# Altium footprint library SparkFun-IC-Microcontroller.PCBLIB: 44 footprints (part 2 of 3)
Each footprint in its own frame and in the unit in brackets; x right, y up, seen from the top. Pads: shape width x height; smd on the part's side, far side on the other; paste and mask are expansions set on the pad; w line width, h text height; cw(c..) or ccw(c..) is an arc to the next point about the centre after c.
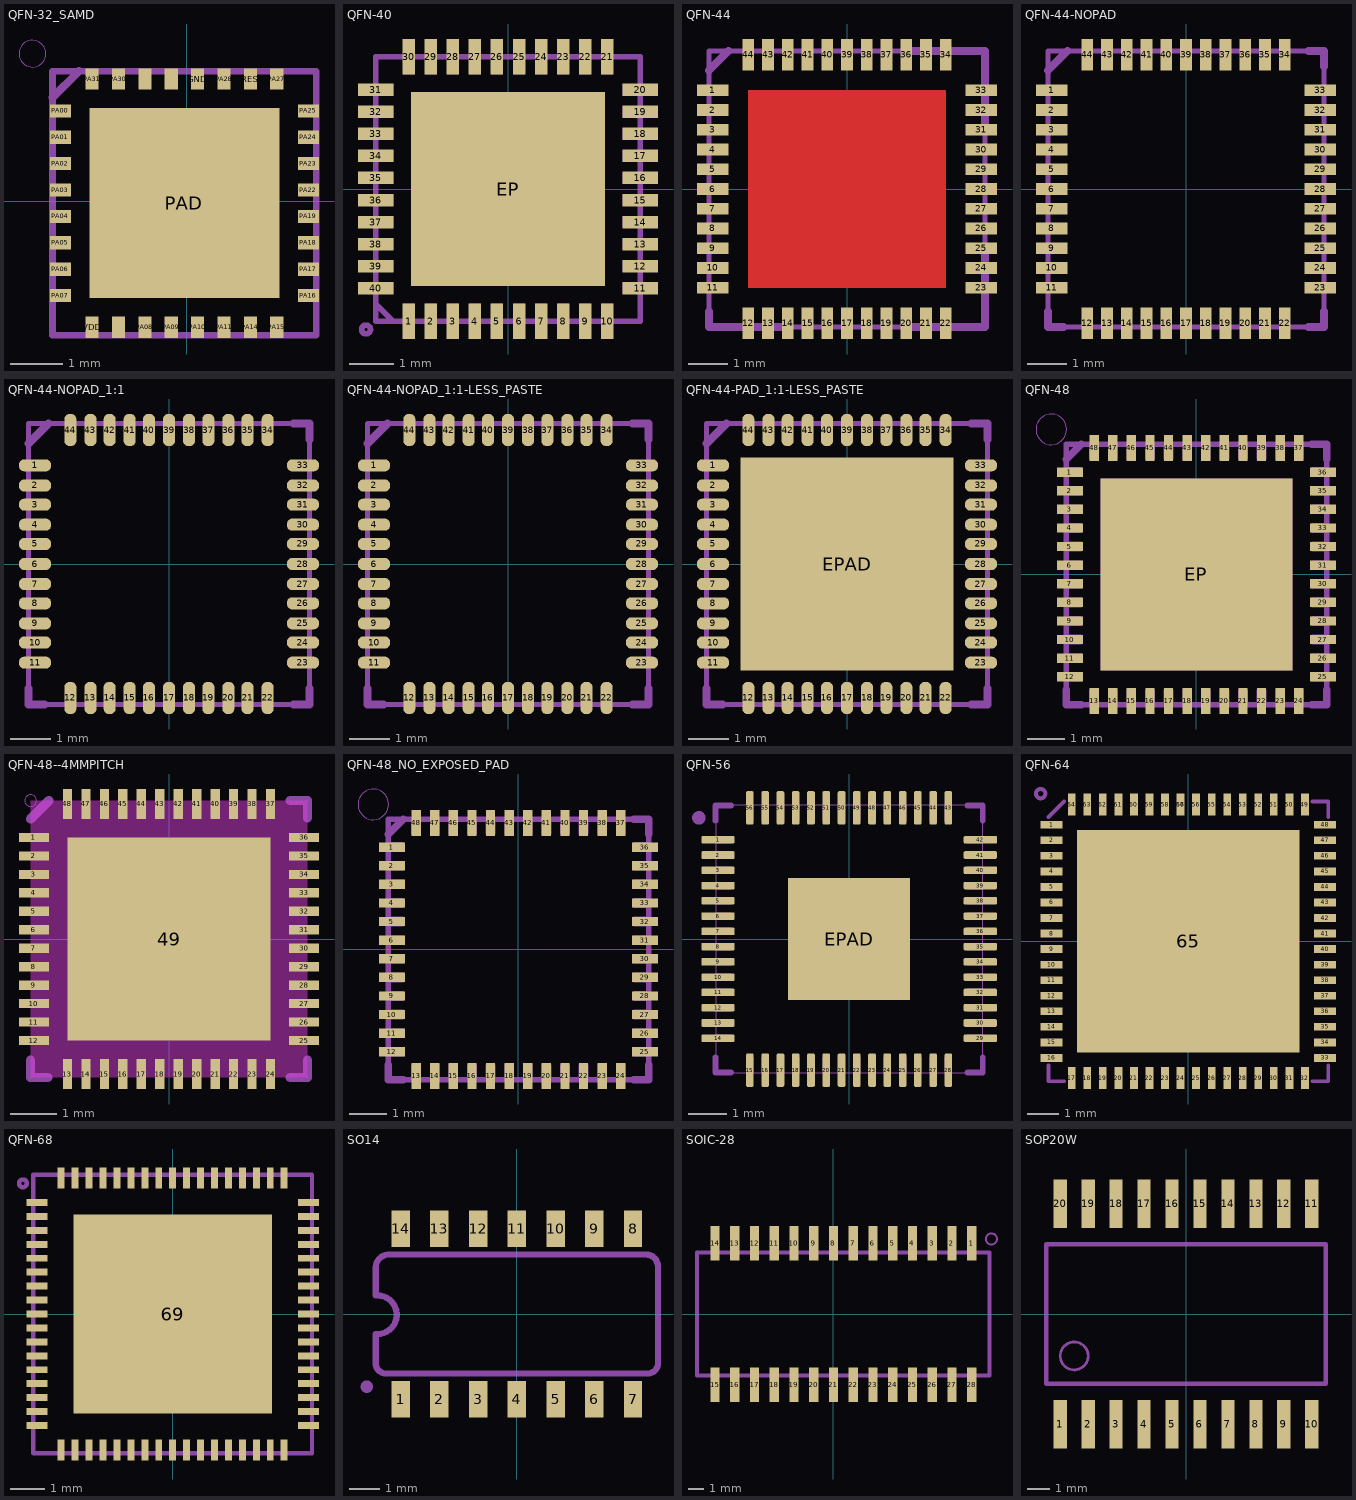
[diagram p1: the footprints below, top view; thin cyan lines are the x and y axes]

## QFN-32_SAMD [mm]
pads (33):
  rect 0.25x0.4 smd: GND(0.21,2.31) GNDANA(-1.29,-2.39) PA08(-0.79,-2.39) PA09(-0.29,-2.39) PA10(0.21,-2.39) PA11(0.71,-2.39) PA14(1.21,-2.39) PA15(1.71,-2.39) PA27(1.71,2.31) PA28(0.71,2.31) PA30(-1.29,2.31) PA31(-1.79,2.31) RES(1.21,2.31) VDD(-1.79,-2.39) VDDCORE(-0.29,2.31) VDDIN(-0.79,2.31)
  rect 0.4x0.25 smd: PA00(-2.39,1.71) PA01(-2.39,1.21) PA02(-2.39,0.71) PA03(-2.39,0.21) PA04(-2.39,-0.29) PA05(-2.39,-0.79) PA06(-2.39,-1.29) PA07(-2.39,-1.79) PA16(2.31,-1.79) PA17(2.31,-1.29) PA18(2.31,-0.79) PA19(2.31,-0.29) PA22(2.31,0.21) PA23(2.31,0.71) PA24(2.31,1.21) PA25(2.31,1.71)
  rect 3.6x3.6 smd paste+0: PAD(-0.04,-0.04)
Top Paste:
  region: -1.414,0.274 -1.414,1.417 -0.271,1.417 -0.271,0.274
  region: 0.204,0.284 0.204,1.427 1.347,1.427 1.347,0.284
  region: -1.424,-1.42 -1.424,-0.277 -0.281,-0.277 -0.281,-1.42
  region: 0.194,-1.42 0.194,-0.277 1.337,-0.277 1.337,-1.42
tDocu:
  lines w0.127: -2.54,-2.54 2.46,-2.54 2.46,2.46 -2.54,2.46 -2.54,-2.49
tPlace:
  circle w0: c-2.921,2.794 r0.254
  lines w0.102: -2.54,-2.04 -2.54,-2.54 -2.04,-2.54 ; -2.54,1.96 -2.54,2.46 -2.04,2.46 ; 1.96,-2.54 2.46,-2.54 2.46,-2.04 ; 1.96,2.46 2.46,2.46 2.46,1.96
  lines w0.152: -2.54,1.96 -2.04,2.46

## QFN-40 [mm]
pads (41):
  rect 0.284x0.8 smd paste+0: 1(-2.25,-3) 2(-1.75,-3) 3(-1.25,-3) 4(-0.75,-3) 5(-0.25,-3) 6(0.25,-3) 7(0.75,-3) 8(1.25,-3) 9(1.75,-3) 10(2.25,-3) 21(2.25,3) 22(1.75,3) 23(1.25,3) 24(0.75,3) 25(0.25,3) 26(-0.25,3) 27(-0.75,3) 28(-1.25,3) 29(-1.75,3) 30(-2.25,3)
  rect 0.8x0.284 smd paste+0: 11(3,-2.25) 12(3,-1.75) 13(3,-1.25) 14(3,-0.75) 15(3,-0.25) 16(3,0.25) 17(3,0.75) 18(3,1.25) 19(3,1.75) 20(3,2.25) 31(-3,2.25) 32(-3,1.75) 33(-3,1.25) 34(-3,0.75) 35(-3,0.25) 36(-3,-0.25) 37(-3,-0.75) 38(-3,-1.25) 39(-3,-1.75) 40(-3,-2.25)
  rect 4.4x4.4 smd paste+0: EP(0,0)
Top Paste:
  drawing of 44 lines, arcs and shapes, not listed
tDocu:
  drawing of 44 lines, arcs and shapes, not listed
tPlace:
  circle w0.127: c-3.218,-3.184 r0.1
  lines w0.127: -3,-2.6 -2.6,-3 ; -3,2.6 -3,3 -2.6,3 ; 2.6,-3 3,-3 3,-2.6 ; 2.6,3 3,3 3,2.6

## QFN-44 [mil]
pads (44):
  rect 31.5x11.81 smd: 1(-133.86,98.43) 2(-133.86,78.74) 3(-133.86,59.06) 4(-133.86,39.37) 5(-133.86,19.69) 6(-133.86,0) 7(-133.86,-19.69) 8(-133.86,-39.37) 9(-133.86,-59.06) 10(-133.86,-78.74) 11(-133.86,-98.43) 23(133.86,-98.43) 24(133.86,-78.74) 25(133.86,-59.06) 26(133.86,-39.37) 27(133.86,-19.69) 28(133.86,0) 29(133.86,19.69) 30(133.86,39.37) 31(133.86,59.06) 32(133.86,78.74) 33(133.86,98.43)
  rect 11.81x31.5 smd: 12(-98.43,-133.86) 13(-78.74,-133.86) 14(-59.06,-133.86) 15(-39.37,-133.86) 16(-19.69,-133.86) 17(0,-133.86) 18(19.69,-133.86) 19(39.37,-133.86) 20(59.06,-133.86) 21(78.74,-133.86) 22(98.43,-133.86) 34(98.43,133.86) 35(78.74,133.86) 36(59.06,133.86) 37(39.37,133.86) 38(19.69,133.86) 39(0,133.86) 40(-19.69,133.86) 41(-39.37,133.86) 42(-59.06,133.86) 43(-78.74,133.86) 44(-98.43,133.86)
Top:
  region: -98.43,-98.43 -98.43,98.43 98.43,98.43 98.43,-98.43
Top Solder:
  region: -19.69,-19.69 -19.69,19.69 19.69,19.69 19.69,-19.69
tDocu:
  lines w5: -137.8,-137.8 -137.8,137.8 137.8,137.8 137.8,-137.8 -133.86,-137.8
tPlace:
  lines w8: -137.8,-122.05 -137.8,-137.8 -64.96,-137.8 ; -137.8,118.11 -118.11,137.8 ; 64.96,-137.8 137.8,-137.8 137.8,-64.96 ; 64.96,137.8 137.8,137.8 137.8,64.96

## QFN-44-NOPAD [mil]
pads (44):
  rect 31.5x11.81 smd: 1(-133.86,98.43) 2(-133.86,78.74) 3(-133.86,59.06) 4(-133.86,39.37) 5(-133.86,19.69) 6(-133.86,0) 7(-133.86,-19.69) 8(-133.86,-39.37) 9(-133.86,-59.06) 10(-133.86,-78.74) 11(-133.86,-98.43) 23(133.86,-98.43) 24(133.86,-78.74) 25(133.86,-59.06) 26(133.86,-39.37) 27(133.86,-19.69) 28(133.86,0) 29(133.86,19.69) 30(133.86,39.37) 31(133.86,59.06) 32(133.86,78.74) 33(133.86,98.43)
  rect 11.81x31.5 smd: 12(-98.43,-133.86) 13(-78.74,-133.86) 14(-59.06,-133.86) 15(-39.37,-133.86) 16(-19.69,-133.86) 17(0,-133.86) 18(19.69,-133.86) 19(39.37,-133.86) 20(59.06,-133.86) 21(78.74,-133.86) 22(98.43,-133.86) 34(98.43,133.86) 35(78.74,133.86) 36(59.06,133.86) 37(39.37,133.86) 38(19.69,133.86) 39(0,133.86) 40(-19.69,133.86) 41(-39.37,133.86) 42(-59.06,133.86) 43(-78.74,133.86) 44(-98.43,133.86)
tDocu:
  lines w5: -137.8,-137.8 -137.8,137.8 137.8,137.8 137.8,-137.8 -133.86,-137.8
tPlace:
  lines w8: -137.8,-122.05 -137.8,-137.8 -122.05,-137.8 ; -137.8,118.11 -118.11,137.8 ; 122.05,-137.8 137.8,-137.8 137.8,-122.05 ; 122.05,137.8 137.8,137.8 137.8,122.05

## QFN-44-NOPAD_1:1 [mil]
pads (44):
  rrect85% 31.5x11.81 smd: 1(-131.36,96.76) 2(-131.36,77.08) 3(-131.36,58.22) 4(-131.36,38.54) 5(-131.36,19.69) 6(-131.36,0) 7(-131.36,-19.69) 8(-131.36,-38.54) 9(-131.36,-58.22) 10(-131.36,-77.08) 11(-131.36,-96.76) 23(131.36,-96.76) 24(131.36,-77.08) 25(131.36,-58.22) 26(131.36,-38.54) 27(131.36,-19.69) 28(131.36,0) 29(131.36,19.69) 30(131.36,38.54) 31(131.36,58.22) 32(131.36,77.08) 33(131.36,96.76)
  rrect85% 11.81x31.5 smd: 12(-96.76,-131.36) 13(-77.08,-131.36) 14(-58.22,-131.36) 15(-38.54,-131.36) 16(-19.69,-131.36) 17(0,-131.36) 18(19.69,-131.36) 19(38.54,-131.36) 20(58.22,-131.36) 21(77.08,-131.36) 22(96.76,-131.36) 34(96.76,131.36) 35(77.08,131.36) 36(58.22,131.36) 37(38.54,131.36) 38(19.69,131.36) 39(0,131.36) 40(-19.69,131.36) 41(-38.54,131.36) 42(-58.22,131.36) 43(-77.08,131.36) 44(-96.76,131.36)
tDocu:
  lines w5: -137.8,-137.8 -137.8,137.8 137.8,137.8 137.8,-137.8 -133.86,-137.8
tPlace:
  lines w8: -137.8,-122.05 -137.8,-137.8 -122.05,-137.8 ; -137.8,118.11 -118.11,137.8 ; 122.05,-137.8 137.8,-137.8 137.8,-122.05 ; 122.05,137.8 137.8,137.8 137.8,122.05

## QFN-44-NOPAD_1:1-LESS_PASTE [mil]
pads (44):
  rrect85% 31.5x11.81 smd paste+0: 1(-131.36,96.76) 2(-131.36,77.08) 3(-131.36,58.22) 4(-131.36,38.54) 5(-131.36,19.69) 6(-131.36,0) 7(-131.36,-19.69) 8(-131.36,-38.54) 9(-131.36,-58.22) 10(-131.36,-77.08) 11(-131.36,-96.76) 23(131.36,-96.76) 24(131.36,-77.08) 25(131.36,-58.22) 26(131.36,-38.54) 27(131.36,-19.69) 28(131.36,0) 29(131.36,19.69) 30(131.36,38.54) 31(131.36,58.22) 32(131.36,77.08) 33(131.36,96.76)
  rrect85% 11.81x31.5 smd paste+0: 12(-96.76,-131.36) 13(-77.08,-131.36) 14(-58.22,-131.36) 15(-38.54,-131.36) 16(-19.69,-131.36) 17(0,-131.36) 18(19.69,-131.36) 19(38.54,-131.36) 20(58.22,-131.36) 21(77.08,-131.36) 22(96.76,-131.36) 34(96.76,131.36) 35(77.08,131.36) 36(58.22,131.36) 37(38.54,131.36) 38(19.69,131.36) 39(0,131.36) 40(-19.69,131.36) 41(-38.54,131.36) 42(-58.22,131.36) 43(-77.08,131.36) 44(-96.76,131.36)
Top Paste:
  drawing of 44 lines, arcs and shapes, not listed
tDocu:
  lines w5: -137.8,-137.8 -137.8,137.8 137.8,137.8 137.8,-137.8 -133.86,-137.8
tPlace:
  lines w8: -137.8,-122.05 -137.8,-137.8 -122.05,-137.8 ; -137.8,118.11 -118.11,137.8 ; 122.05,-137.8 137.8,-137.8 137.8,-122.05 ; 122.05,137.8 137.8,137.8 137.8,122.05

## QFN-44-PAD_1:1-LESS_PASTE [mil]
pads (45):
  rrect85% 31.5x11.81 smd paste+0: 1(-131.36,96.76) 2(-131.36,77.08) 3(-131.36,58.22) 4(-131.36,38.54) 5(-131.36,19.69) 6(-131.36,0) 7(-131.36,-19.69) 8(-131.36,-38.54) 9(-131.36,-58.22) 10(-131.36,-77.08) 11(-131.36,-96.76) 23(131.36,-96.76) 24(131.36,-77.08) 25(131.36,-58.22) 26(131.36,-38.54) 27(131.36,-19.69) 28(131.36,0) 29(131.36,19.69) 30(131.36,38.54) 31(131.36,58.22) 32(131.36,77.08) 33(131.36,96.76)
  rrect85% 11.81x31.5 smd paste+0: 12(-96.76,-131.36) 13(-77.08,-131.36) 14(-58.22,-131.36) 15(-38.54,-131.36) 16(-19.69,-131.36) 17(0,-131.36) 18(19.69,-131.36) 19(38.54,-131.36) 20(58.22,-131.36) 21(77.08,-131.36) 22(96.76,-131.36) 34(96.76,131.36) 35(77.08,131.36) 36(58.22,131.36) 37(38.54,131.36) 38(19.69,131.36) 39(0,131.36) 40(-19.69,131.36) 41(-38.54,131.36) 42(-58.22,131.36) 43(-77.08,131.36) 44(-96.76,131.36)
  rect 208.66x208.66 smd paste+0: EPAD(0,0)
Top:
  region: -78.74,19.69 -78.74,78.74 -19.69,78.74 -19.69,19.69
Top Paste:
  drawing of 44 lines, arcs and shapes, not listed
tDocu:
  lines w5: -137.8,-137.8 -137.8,137.8 137.8,137.8 137.8,-137.8 -133.86,-137.8
tPlace:
  lines w8: -137.8,-122.05 -137.8,-137.8 -122.05,-137.8 ; -137.8,118.11 -118.11,137.8 ; 122.05,-137.8 137.8,-137.8 137.8,-122.05 ; 122.05,137.8 137.8,137.8 137.8,122.05

## QFN-48 [mm]
pads (49):
  rect 0.7x0.25 smd: 1(-3.4,2.75) 2(-3.4,2.25) 3(-3.4,1.75) 4(-3.4,1.25) 5(-3.4,0.75) 6(-3.4,0.25) 7(-3.4,-0.25) 8(-3.4,-0.75) 9(-3.4,-1.25) 10(-3.4,-1.75) 11(-3.4,-2.25) 12(-3.4,-2.75) 25(3.4,-2.75) 26(3.4,-2.25) 27(3.4,-1.75) 28(3.4,-1.25) 29(3.4,-0.75) 30(3.4,-0.25) 31(3.4,0.25) 32(3.4,0.75) 33(3.4,1.25) 34(3.4,1.75) 35(3.4,2.25) 36(3.4,2.75)
  rect 0.25x0.7 smd: 13(-2.75,-3.4) 14(-2.25,-3.4) 15(-1.75,-3.4) 16(-1.25,-3.4) 17(-0.75,-3.4) 18(-0.25,-3.4) 19(0.25,-3.4) 20(0.75,-3.4) 21(1.25,-3.4) 22(1.75,-3.4) 23(2.25,-3.4) 24(2.75,-3.4) 37(2.75,3.4) 38(2.25,3.4) 39(1.75,3.4) 40(1.25,3.4) 41(0.75,3.4) 42(0.25,3.4) 43(-0.25,3.4) 44(-0.75,3.4) 45(-1.25,3.4) 46(-1.75,3.4) 47(-2.25,3.4) 48(-2.75,3.4)
  rect 5.15x5.15 smd paste+0: EP(0,0)
tDocu:
  drawing of 53 lines, arcs and shapes, not listed
tPlace:
  circle w0: c-3.9,3.9 r0.412
  lines w0.203: -3.5,-3.1 -3.5,-3.5 -3.1,-3.5 ; -3.5,3.1 -3.1,3.5 ; 3.1,-3.5 3.5,-3.5 3.5,-3.1 ; 3.1,3.5 3.5,3.5 3.5,3.1

## QFN-48--4MMPITCH [mm]
pads (49):
  rect 0.65x0.2 smd paste+0: 1(-2.925,2.2) 2(-2.925,1.8) 3(-2.925,1.4) 4(-2.925,1) 5(-2.925,0.6) 6(-2.925,0.2) 7(-2.925,-0.2) 8(-2.925,-0.6) 9(-2.925,-1) 10(-2.925,-1.4) 11(-2.925,-1.8) 12(-2.925,-2.2) 25(2.925,-2.2) 26(2.925,-1.8) 27(2.925,-1.4) 28(2.925,-1) 29(2.925,-0.6) 30(2.925,-0.2) 31(2.925,0.2) 32(2.925,0.6) 33(2.925,1) 34(2.925,1.4) 35(2.925,1.8) 36(2.925,2.2)
  rect 0.2x0.65 smd paste+0: 13(-2.2,-2.925) 14(-1.8,-2.925) 15(-1.4,-2.925) 16(-1,-2.925) 17(-0.6,-2.925) 18(-0.2,-2.925) 19(0.2,-2.925) 20(0.6,-2.925) 21(1,-2.925) 22(1.4,-2.925) 23(1.8,-2.925) 24(2.2,-2.925) 37(2.2,2.925) 38(1.8,2.925) 39(1.4,2.925) 40(1,2.925) 41(0.6,2.925) 42(0.2,2.925) 43(-0.2,2.925) 44(-0.6,2.925) 45(-1,2.925) 46(-1.4,2.925) 47(-1.8,2.925) 48(-2.2,2.925)
  rect 4.4x4.4 smd paste+0: 49(0,0)
Top keep-out:
  region: 3,-3 -3,-3 -3,3 3,3
  region: -0.508,-2.388 -0.508,-2.21 0.508,-2.21 0.508,-2.388
  region: -2.21,-0.508 -2.388,-0.508 -2.388,0.508 -2.21,0.508
  region: 2.388,-0.508 2.21,-0.508 2.21,0.508 2.388,0.508
  region: -0.508,2.21 -0.508,2.388 0.508,2.388 0.508,2.21
Top Paste:
  drawing of 54 lines, arcs and shapes, not listed
tPlace:
  circle w0: c-2.997,2.997 r0.127
  lines w0.203: -3,-2.625 -3,-3 -2.625,-3 ; -3,2.6 -2.6,3 ; 2.625,-3 3,-3 3,-2.625 ; 2.625,3 3,3 3,2.625

## QFN-48_NO_EXPOSED_PAD [mm]
pads (48):
  rect 0.7x0.25 smd: 1(-3.4,2.75) 2(-3.4,2.25) 3(-3.4,1.75) 4(-3.4,1.25) 5(-3.4,0.75) 6(-3.4,0.25) 7(-3.4,-0.25) 8(-3.4,-0.75) 9(-3.4,-1.25) 10(-3.4,-1.75) 11(-3.4,-2.25) 12(-3.4,-2.75) 25(3.4,-2.75) 26(3.4,-2.25) 27(3.4,-1.75) 28(3.4,-1.25) 29(3.4,-0.75) 30(3.4,-0.25) 31(3.4,0.25) 32(3.4,0.75) 33(3.4,1.25) 34(3.4,1.75) 35(3.4,2.25) 36(3.4,2.75)
  rect 0.25x0.7 smd: 13(-2.75,-3.4) 14(-2.25,-3.4) 15(-1.75,-3.4) 16(-1.25,-3.4) 17(-0.75,-3.4) 18(-0.25,-3.4) 19(0.25,-3.4) 20(0.75,-3.4) 21(1.25,-3.4) 22(1.75,-3.4) 23(2.25,-3.4) 24(2.75,-3.4) 37(2.75,3.4) 38(2.25,3.4) 39(1.75,3.4) 40(1.25,3.4) 41(0.75,3.4) 42(0.25,3.4) 43(-0.25,3.4) 44(-0.75,3.4) 45(-1.25,3.4) 46(-1.75,3.4) 47(-2.25,3.4) 48(-2.75,3.4)
tDocu:
  drawing of 52 lines, arcs and shapes, not listed
tPlace:
  circle w0: c-3.9,3.9 r0.412
  lines w0.203: -3.5,-3.1 -3.5,-3.5 -3.1,-3.5 ; -3.5,3.1 -3.1,3.5 ; 3.1,-3.5 3.5,-3.5 3.5,-3.1 ; 3.1,3.5 3.5,3.5 3.5,3.1

## QFN-56 [mm]
pads (57):
  rrect40% 0.875x0.2 smd paste+0: 1(-3.437,2.6) 2(-3.437,2.2) 3(-3.437,1.8) 4(-3.437,1.4) 5(-3.437,1) 6(-3.437,0.6) 7(-3.437,0.2) 8(-3.437,-0.2) 9(-3.437,-0.6) 10(-3.437,-1) 11(-3.437,-1.4) 12(-3.437,-1.8) 13(-3.437,-2.2) 14(-3.437,-2.6) 29(3.437,-2.6) 30(3.437,-2.2) 31(3.437,-1.8) 32(3.437,-1.4) 33(3.437,-1) 34(3.437,-0.6) 35(3.437,-0.2) 36(3.437,0.2) 37(3.437,0.6) 38(3.437,1) 39(3.437,1.4) 40(3.437,1.8) 41(3.437,2.2) 42(3.437,2.6)
  rrect40% 0.2x0.875 smd paste+0: 15(-2.6,-3.437) 16(-2.2,-3.437) 17(-1.8,-3.437) 18(-1.4,-3.437) 19(-1,-3.437) 20(-0.6,-3.437) 21(-0.2,-3.437) 22(0.2,-3.437) 23(0.6,-3.437) 24(1,-3.437) 25(1.4,-3.437) 26(1.8,-3.437) 27(2.2,-3.437) 28(2.6,-3.437) 43(2.6,3.437) 44(2.2,3.437) 45(1.8,3.437) 46(1.4,3.437) 47(1,3.437) 48(0.6,3.437) 49(0.2,3.437) 50(-0.2,3.437) 51(-0.6,3.437) 52(-1,3.437) 53(-1.4,3.437) 54(-1.8,3.437) 55(-2.2,3.437) 56(-2.6,3.437)
  rect 3.2x3.2 smd paste+0: EPAD(0,0)
Top Paste:
  drawing of 61 lines, arcs and shapes, not listed
tDocu:
  drawing of 60 lines, arcs and shapes, not listed
tPlace:
  circle w0.254: c-3.937,3.175 r0.05
  lines w0.152: -3.5,-3.1 -3.5,-3.5 -3.1,-3.5 ; -3.5,3.1 -3.5,3.5 -3.1,3.5 ; 3.1,-3.5 3.5,-3.5 3.5,-3.1 ; 3.1,3.5 3.5,3.5 3.5,3.1

## QFN-64 [mil]
pads (66):
  rect 27.56x9.84 smd paste+0: 1(-173.23,147.64) 2(-173.23,127.95) 3(-173.23,108.27) 4(-173.23,88.58) 5(-173.23,68.9) 6(-173.23,49.21) 7(-173.23,29.53) 8(-173.23,9.84) 9(-173.23,-9.84) 10(-173.23,-29.53) 11(-173.23,-49.21) 12(-173.23,-68.9) 13(-173.23,-88.58) 14(-173.23,-108.27) 15(-173.23,-127.95) 16(-173.23,-147.64) 33(173.23,-147.64) 34(173.23,-127.95) 35(173.23,-108.27) 36(173.23,-88.58) 37(173.23,-68.9) 38(173.23,-49.21) 39(173.23,-29.53) 40(173.23,-9.84) 41(173.23,9.84) 42(173.23,29.53) 43(173.23,49.21) 44(173.23,68.9) 45(173.23,88.58) 46(173.23,108.27) 47(173.23,127.95) 48(173.23,147.64)
  rect 9.84x27.56 smd paste+0: 17(-147.64,-173.23) 18(-127.95,-173.23) 19(-108.27,-173.23) 20(-88.58,-173.23) 21(-68.9,-173.23) 22(-49.21,-173.23) 23(-29.53,-173.23) 24(-9.84,-173.23) 25(9.84,-173.23) 26(29.53,-173.23) 27(49.21,-173.23) 28(68.9,-173.23) 29(88.58,-173.23) 30(108.27,-173.23) 31(127.95,-173.23) 32(147.64,-173.23) 49(147.64,173.23) 50(127.95,173.23) 51(108.27,173.23) 52(88.58,173.23) 53(68.9,173.23) 54(49.21,173.23) 55(29.53,173.23) 56(9.84,173.23) 57(-9.84,173.23) 58(-29.53,173.23) 59(-49.21,173.23) 60(-68.9,173.23) 61(-88.58,173.23) 62(-108.27,173.23) 63(-127.95,173.23) 64(-147.64,173.23) 66(-9.84,173.23)
  rect 281.5x281.5 smd paste+0: 65(0,0)
Top Paste:
  drawing of 68 lines, arcs and shapes, not listed
tPlace:
  circle w5: c-187.01,187.01 r5.91
  lines w5: -177.17,-157.48 -177.17,-177.17 -157.48,-177.17 ; -177.17,157.48 -157.48,177.17 ; 157.48,-177.17 177.17,-177.17 177.17,-157.48 ; 157.48,177.17 177.17,177.17 177.17,157.48

## QFN-68 [mm]
pads (69):
  rect 0.6x0.2 smd: 1(-3.9,3.2) 2(-3.9,2.8) 3(-3.9,2.4) 4(-3.9,2) 5(-3.9,1.6) 6(-3.9,1.2) 7(-3.9,0.8) 8(-3.9,0.4) 9(-3.9,0) 10(-3.9,-0.4) 11(-3.9,-0.8) 12(-3.9,-1.2) 13(-3.9,-1.6) 14(-3.9,-2) 15(-3.9,-2.4) 16(-3.9,-2.8) 17(-3.9,-3.2) 35(3.9,-3.2) 36(3.9,-2.8) 37(3.9,-2.4) 38(3.9,-2) 39(3.9,-1.6) 40(3.9,-1.2) 41(3.9,-0.8) 42(3.9,-0.4) 43(3.9,0) 44(3.9,0.4) 45(3.9,0.8) 46(3.9,1.2) 47(3.9,1.6) 48(3.9,2) 49(3.9,2.4) 50(3.9,2.8) 51(3.9,3.2)
  rect 0.2x0.6 smd: 18(-3.2,-3.9) 19(-2.8,-3.9) 20(-2.4,-3.9) 21(-2,-3.9) 22(-1.6,-3.9) 23(-1.2,-3.9) 24(-0.8,-3.9) 25(-0.4,-3.9) 26(0,-3.9) 27(0.4,-3.9) 28(0.8,-3.9) 29(1.2,-3.9) 30(1.6,-3.9) 31(2,-3.9) 32(2.4,-3.9) 33(2.8,-3.9) 34(3.2,-3.9) 52(3.2,3.9) 53(2.8,3.9) 54(2.4,3.9) 55(2,3.9) 56(1.6,3.9) 57(1.2,3.9) 58(0.8,3.9) 59(0.4,3.9) 60(0,3.9) 61(-0.4,3.9) 62(-0.8,3.9) 63(-1.2,3.9) 64(-1.6,3.9) 65(-2,3.9) 66(-2.4,3.9) 67(-2.8,3.9) 68(-3.2,3.9)
  rect 5.7x5.7 smd paste+0: 69(0,0)
Top Paste:
  region: -0.5,1.5 -0.5,2.5 0.5,2.5 0.5,1.5
  region: -0.5,-0.5 -0.5,0.5 0.5,0.5 0.5,-0.5
  region: -0.5,-2.5 -0.5,-1.5 0.5,-1.5 0.5,-2.5
  region: 1.5,-0.5 1.5,0.5 2.5,0.5 2.5,-0.5
  region: -2.5,-0.5 -2.5,0.5 -1.5,0.5 -1.5,-0.5
tPlace:
  circle w0.127: c-4.3,3.75 r0.112
  lines w0.127: -4,-4 4,-4 4,4 -4,4 -4,-4

## SO14 [mm]
pads (14):
  rect 0.6x1.2 smd: 1(-3.81,-2.8) 2(-2.54,-2.8) 3(-1.27,-2.8) 4(0,-2.8) 5(1.27,-2.8) 6(2.54,-2.8) 7(3.81,-2.8) 8(3.81,2.8) 9(2.54,2.8) 10(1.27,2.8) 11(0,2.8) 12(-1.27,2.8) 13(-2.54,2.8) 14(-3.81,2.8)
tDocu:
  region: -4.064,-3.302 -4.064,-2.273 -3.556,-2.273 -3.556,-3.302
  region: -2.794,-3.302 -2.794,-2.273 -2.286,-2.273 -2.286,-3.302
  region: -1.524,-3.302 -1.524,-2.273 -1.016,-2.273 -1.016,-3.302
  region: -0.254,-3.302 -0.254,-2.273 0.254,-2.273 0.254,-3.302
  region: 1.016,-3.302 1.016,-2.273 1.524,-2.273 1.524,-3.302
  region: 2.286,-3.302 2.286,-2.273 2.794,-2.273 2.794,-3.302
  region: 3.556,-3.302 3.556,-2.273 4.064,-2.273 4.064,-3.302
  region: -2.794,2.286 -2.794,3.302 -2.286,3.302 -2.286,2.286
  region: -1.524,2.286 -1.524,3.302 -1.016,3.302 -1.016,2.286
  region: -0.254,2.286 -0.254,3.302 0.254,3.302 0.254,2.286
  region: 1.016,2.286 1.016,3.302 1.524,3.302 1.524,2.286
  region: 2.286,2.286 2.286,3.302 2.794,3.302 2.794,2.286
  region: 3.556,2.286 3.556,3.302 4.064,3.302 4.064,2.286
  region: -4.064,2.286 -4.064,3.302 -3.556,3.302 -3.556,2.286
tPlace:
  circle w0.203: c-4.921,-2.381 r0.102
  lines w0.203: -4.623,-0.66 -4.623,-1.665 ccw(c-4.292,-1.616) -4.242,-1.946 4.342,-1.946 ccw(c4.292,-1.615) 4.623,-1.565 4.623,1.565 ccw(c4.242,1.566) 4.242,1.946 -4.242,1.946 ccw(c-4.192,1.515) -4.623,1.465 ; -4.623,0.61 -4.623,1.453 ; -4.572,-0.66 ccw(c-4.572,-0.025) -4.572,0.61

## SOIC-28 [mm]
pads (28):
  rect 0.6x2.2 smd: 1(8.89,4.548) 2(7.62,4.548) 3(6.35,4.548) 4(5.08,4.548) 5(3.81,4.548) 6(2.54,4.548) 7(1.27,4.548) 8(0,4.548) 9(-1.27,4.548) 10(-2.54,4.548) 11(-3.81,4.548) 12(-5.08,4.548) 13(-6.35,4.548) 14(-7.62,4.548) 15(-7.62,-4.548) 16(-6.35,-4.548) 17(-5.08,-4.548) 18(-3.81,-4.548) 19(-2.54,-4.548) 20(-1.27,-4.548) 21(0,-4.548) 22(1.27,-4.548) 23(2.54,-4.548) 24(3.81,-4.548) 25(5.08,-4.548) 26(6.35,-4.548) 27(7.62,-4.548) 28(8.89,-4.548)
tPlace:
  circle w0.127: c10.16,4.826 r0.359
  lines w0.254: -8.78,-3.958 -8.78,3.958 10.05,3.958 10.05,-3.958 -8.78,-3.958

## SOP20W [mm]
pads (20):
  rect 0.6x2.2 smd: 1(-5.715,-5) 2(-4.445,-5) 3(-3.175,-5) 4(-1.905,-5) 5(-0.635,-5) 6(0.635,-5) 7(1.905,-5) 8(3.175,-5) 9(4.445,-5) 10(5.715,-5) 11(5.715,5) 12(4.445,5) 13(3.175,5) 14(1.905,5) 15(0.635,5) 16(-0.635,5) 17(-1.905,5) 18(-3.175,5) 19(-4.445,5) 20(-5.715,5)
tPlace:
  circle w0.127: c-5.08,-1.905 r0.635
  lines w0.203: -6.35,-3.175 6.35,-3.175 6.35,3.175 -6.35,3.175 -6.35,-3.175